# Altium footprint library SOT150P402X160-4N.PcbLib: 1 footprints
Each footprint in its own frame and in the unit in brackets; x right, y up, seen from the top. Pads: shape width x height; smd on the part's side, far side on the other; paste and mask are expansions set on the pad; w line width, h text height; cw(c..) or ccw(c..) is an arc to the next point about the centre after c.
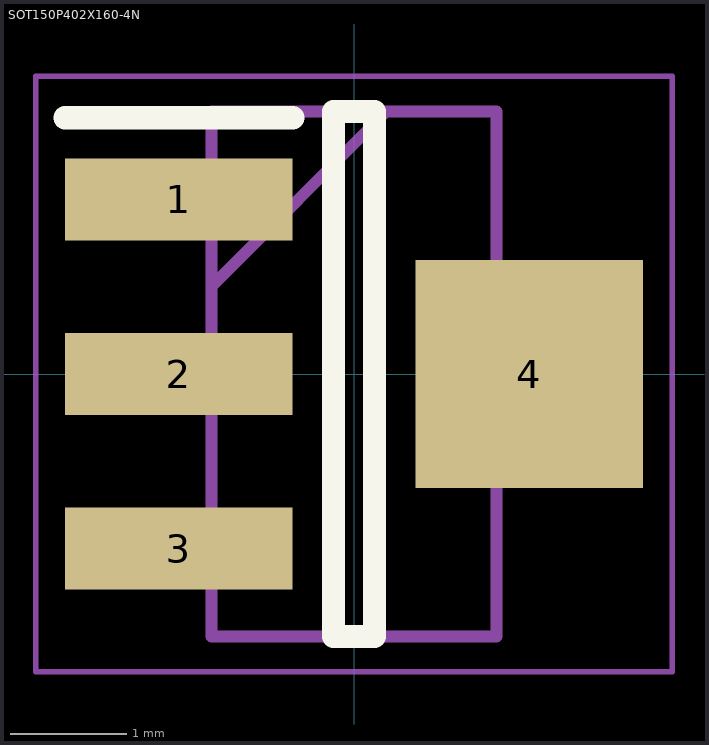
[diagram p0: the footprint, top view; thin cyan lines are the x and y axes]

## SOT150P402X160-4N [mm]
pads (4):
  rect 1.95x0.7 smd: 1(-1.5,1.495) 2(-1.5,0) 3(-1.5,-1.495)
  rrect0% 1.95x1.95 smd: 4(1.5,0)
L26-Silk Screen Top (Multiple PADS layers...):
  lines w0.2: -2.475,2.195 -0.525,2.195 ; -0.175,-2.248 0.175,-2.248 0.175,2.248 -0.175,2.248 -0.175,-2.248
L15 (Multiple PADS layers...):
  lines w0.1: -1.22,0.752 0.275,2.248 ; -1.22,-2.248 1.22,-2.248 1.22,2.248 -1.22,2.248 -1.22,-2.248
L20:
  lines w0.05: -2.725,-2.55 2.725,-2.55 2.725,2.55 -2.725,2.55 -2.725,-2.55